# Altium schematic symbol library 74AHC1G79.SchLib: 1 symbol
Pins are listed as number, name and electrical type; pins without a type are passive.

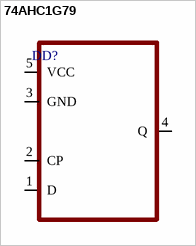
[diagram p0: symbol 74AHC1G79]

## 74AHC1G79
designator DD?
pins: 1 D, 2 CP, 3 GND, 4 Q, 5 VCC